# Altium integrated library Resistor_0805.IntLib: 1 symbol
Pins are listed as number, name and electrical type; pins without a type are passive.

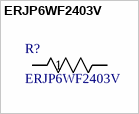
[diagram p0: symbol ERJP6WF2403V]

## ERJP6WF2403V
designator R?
Description; Manufacturer_Name: Panasonic; Type: Chip Resistor - Surface Mount; Copyright: Copyright (C) 2025 Ultra Librarian. All rights reserved.; Manufacturer_Part_Number: ERJP6WF2403V
footprint RES_ERJP6W_PAN
pins: 1, 2